# EAGLE library part ESP8266-12E (library ESP12E)
ESP8266-12E with additional I/O and GPIO04/05 corrected The author cannot warrant that this library is free from error or will meet your specific requirements. Created by PuceBaboon.com. Komagane, Nagano, JAPAN
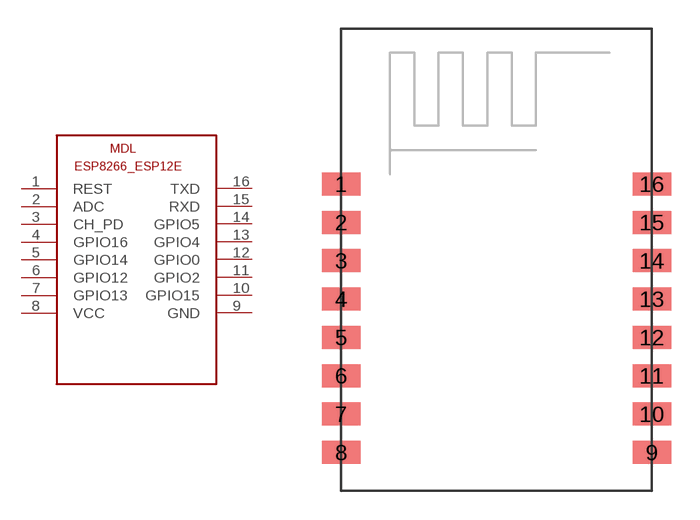
[diagram p0: symbol with the pads of ESP8266-ESP12E; footprint ESP8266-ESP12E]

Designator prefix MDL

## ESP8266-12EESP8266-ESP12E  [ESP8266-ESP12E]
1  REST
2  ADC
3  CH_PD
4  GPIO16
5  GPIO14
6  GPIO12
7  GPIO13
8  VCC
9  GND
10  GPIO15
11  GPIO2
12  GPIO0
13  GPIO4
14  GPIO5
15  RXD
16  TXD

## Footprint ESP8266-ESP12E (pad centres in mm)
ESP8266-12E with additional I/O and GPIO04/05 corrected The author cannot warrant that this library is free from error or will meet your specific requirements. Created by PuceBaboon.com. Komagane, Nagano, JAPAN
smd 2 x 1.2: 1 0,16; 2 0,14; 3 0,12; 4 0,10; 5 0,8; 6 0,6; 7 0,4; 8 0,2; 9 16.2,2; 10 16.2,4; 11 16.2,6; 12 16.2,8; 13 16.2,10; 14 16.2,12; 15 16.2,14; 16 16.2,16